# Altium footprint library PcbLib1.PcbLib: 10 footprints
Each footprint in its own frame and in the unit in brackets; x right, y up, seen from the top. Pads: shape width x height; smd on the part's side, far side on the other; paste and mask are expansions set on the pad; w line width, h text height; cw(c..) or ccw(c..) is an arc to the next point about the centre after c.
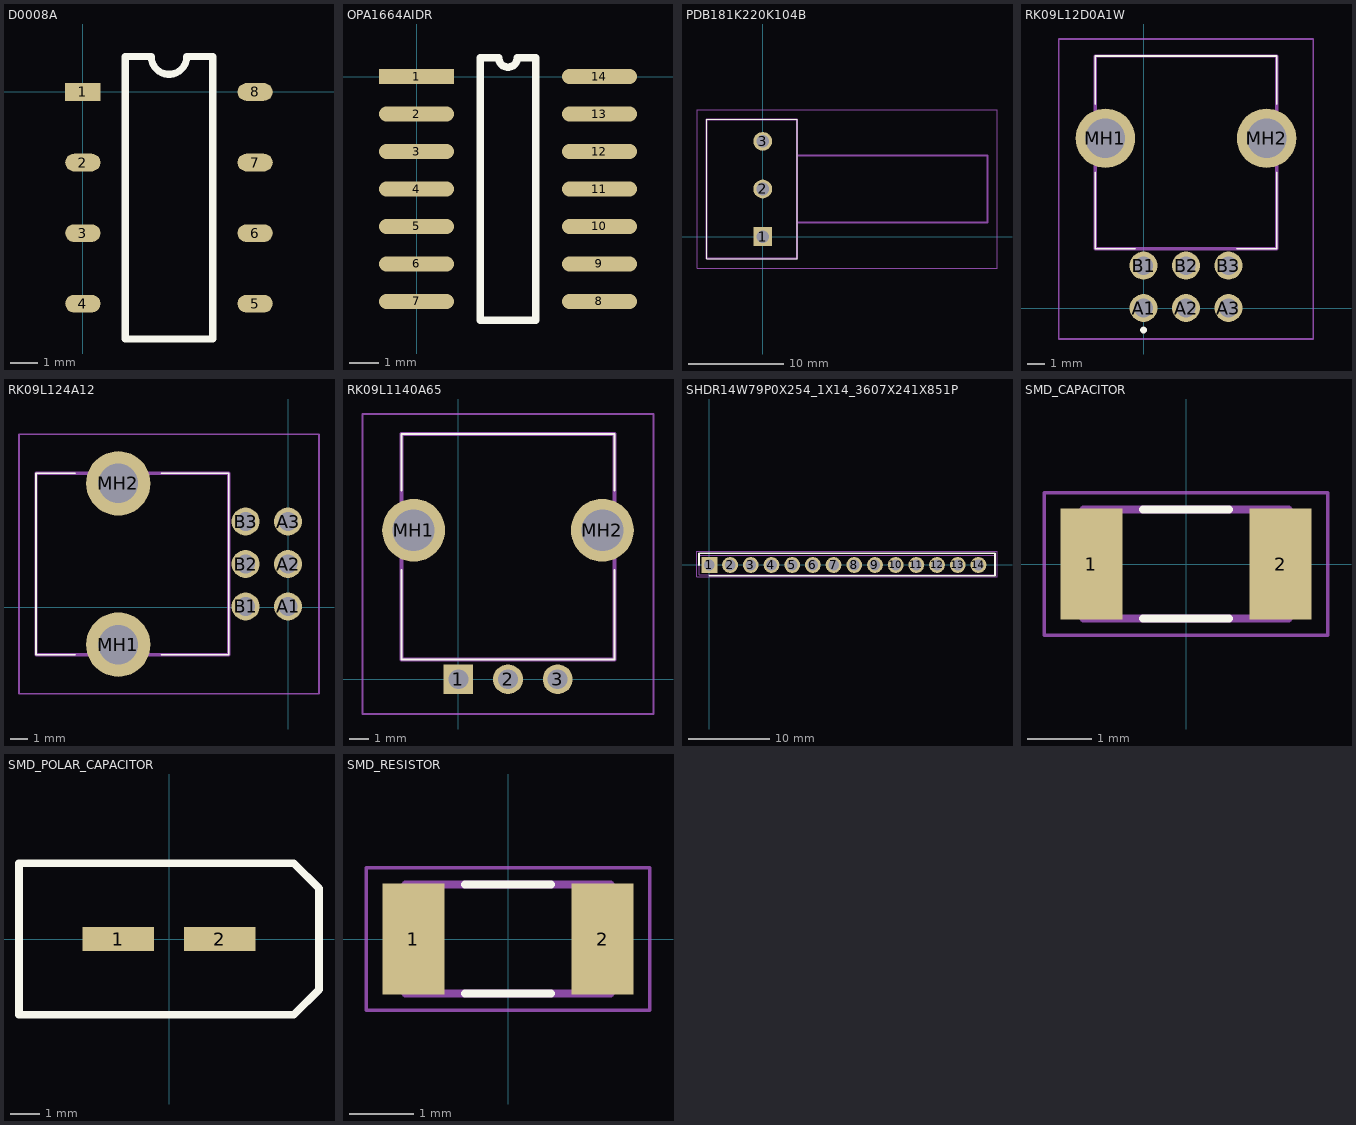
[diagram p0: the footprints below, top view; thin cyan lines are the x and y axes]

## D0008A [mil]
pads (8):
  rect 50x25 smd: 1(0,0)
  oval 50x25 smd: 2(0,-100) 3(0,-200) 4(0,-300) 5(244,-300) 6(244,-200) 7(244,-100) 8(244,0)
Top Overlay:
  lines w10: 60,-350 184,-350 184,50 147,50 cw(c122,50) 97,50 60,50 60,-350

## OPA1664AIDR [mil]
pads (14):
  rect 100x20 smd: 1(0,0)
  oval 100x20 smd: 2(0,-50) 3(0,-100) 4(0,-150) 5(0,-200) 6(0,-250) 7(0,-300) 8(244,-300) 9(244,-250) 10(244,-200) 11(244,-150) 12(244,-100) 13(244,-50) 14(244,0)
Top Overlay:
  lines w10: 85,-325 159,-325 159,25 134.5,25 cw(c122,25) 109.5,25 85,25 85,-325

## PDB181K220K104B [mm]
pads (3):
  rect 1.98x1.98 hole 1.32: 1(0,0)
  round 1.98 hole 1.32: 2(0,5) 3(0,10)
Top Overlay:
  lines w0.1: -5.9,-2.3 -1.4,-2.3 3.6,-2.3 3.6,12.3 -1.4,12.3 -5.9,12.3 -5.9,-2.3
Mechanical 13:
  lines w0.2: 3.6,1.5 23.6,1.5 23.6,8.5 3.6,8.5 ; -5.9,-2.3 -5.9,12.3 3.6,12.3 3.6,-2.3 -5.9,-2.3
Mechanical 15:
  lines w0.1: -6.9,-3.3 -6.9,13.3 24.6,13.3 24.6,-3.3 -6.9,-3.3

## RK09L12D0A1W [mm]
pads (8):
  round 1.65 hole 1.1: A1(0,0) A2(2.5,0) A3(5,0) B1(0,2.5) B2(2.5,2.5) B3(5,2.5)
  round 3.499 hole 2.332: MH1(-2.25,10) MH2(7.25,10)
Top Overlay:
  lines w0.1: -2.85,8 -2.85,3.5 -0.5,3.5 ; -2.85,12 -2.85,14.85 7.85,14.85 7.85,12 ; 5.5,3.5 7.85,3.5 7.85,8
  lines w0.2: -0.1,-1.3 ccw(c0,-1.3) 0.1,-1.3 ccw(c0,-1.3) -0.1,-1.3
Mechanical 13:
  lines w0.2: -2.85,3.5 7.85,3.5 7.85,14.85 -2.85,14.85 -2.85,3.5
Mechanical 15:
  lines w0.1: -4.999,-1.825 9.999,-1.825 9.999,15.85 -4.999,15.85 -4.999,-1.825
3D body "RK09L12D0A1W.stp": height 25.1, standoff -5, extent -3.308,-0.449 8.316,14.85

## RK09L124A12 [mm]
pads (8):
  round 1.65 hole 1.1: A1(0,0.04) A2(0,2.54) A3(0,5.04) B1(-2.5,0.04) B2(-2.5,2.54) B3(-2.5,5.04)
  round 3.795 hole 2.33: MH1(-10,-2.21) MH2(-10,7.29)
Top Overlay:
  lines w0.1: -12.54,-2.81 -14.85,-2.81 -14.85,7.89 -12.54,7.89 ; -7.46,-2.81 -3.5,-2.81 -3.5,7.89 -7.46,7.89
Mechanical 13:
  lines w0.2: -14.85,-2.81 -14.85,7.89 -3.5,7.89 -3.5,-2.81 -14.85,-2.81
Mechanical 15:
  lines w0.1: -15.85,-5.107 -15.85,10.188 1.825,10.188 1.825,-5.107 -15.85,-5.107
3D body "RK09L1240A12.stp": height 30.1, standoff -5, extent -14.85,-3.273 0.45,8.353

## RK09L1140A65 [mm]
pads (5):
  rect 1.5x1.5 hole 1: 1(0,0)
  round 1.5 hole 1: 2(2.5,0) 3(5,0)
  round 3.164 hole 2.11: MH1(-2.25,7.5) MH2(7.25,7.5)
Top Overlay:
  lines w0.1: -2.85,5.5 -2.85,1 7.85,1 7.85,5.5 ; -2.85,9.5 -2.85,12.35 7.85,12.35 7.85,9.5
Mechanical 13:
  lines w0.2: -2.85,1 7.85,1 7.85,12.35 -2.85,12.35 -2.85,1
Mechanical 15:
  lines w0.1: -4.832,-1.75 9.832,-1.75 9.832,13.35 -4.832,13.35 -4.832,-1.75
3D body "RK09L1140A65.stp": height 35.1, standoff -5, extent -3.197,-0.399 8.205,12.35

## SHDR14W79P0X254_1X14_3607X241X851P [mm]
pads (14):
  rect 1.95x1.95 hole 1.3: 1(0,0)
  round 1.95 hole 1.3: 2(2.54,0) 3(5.08,0) 4(7.62,0) 5(10.16,0) 6(12.7,0) 7(15.24,0) 8(17.78,0) 9(20.32,0) 10(22.86,0) 11(25.4,0) 12(27.94,0) 13(30.48,0) 14(33.02,0)
Top Overlay:
  lines w0.2: -1.27,0 -1.27,1.445 35.05,1.445 35.05,-1.325 0,-1.325
Mechanical 13:
  lines w0.1: -1.27,-1.205 -1.27,1.205 35.05,1.205 35.05,-1.205 -1.27,-1.205
Mechanical 15:
  lines w0.05: -1.52,-1.455 -1.52,1.695 35.3,1.695 35.3,-1.455 -1.52,-1.455

## SMD_CAPACITOR [mm]
pads (2):
  rect 0.97x1.73 smd: 1(-1.48,0) 2(1.48,0)
Top Overlay:
  lines w0.127: -0.67,-0.85 0.67,-0.85 ; -0.67,0.85 0.67,0.85
Mechanical 13:
  lines w0.127: -1.6,-0.85 -1.6,0.85 1.6,0.85 1.6,-0.85 -1.6,-0.85
Mechanical 15:
  lines w0.05: -2.215,-1.115 -2.215,1.115 2.215,1.115 2.215,-1.115 -2.215,-1.115

## SMD_POLAR_CAPACITOR [mil]
pads (2):
  rect 94x32 smd: 1(-67,0) 2(67,0)
Top Overlay:
  lines w10: -198,-100 164.67,-100 198,-66.67 198,66.67 164.67,100 -198,100 -198,0 -198,-100

## SMD_RESISTOR [mm]
pads (2):
  rect 0.97x1.73 smd: 1(-1.48,0) 2(1.48,0)
Top Overlay:
  lines w0.127: -0.67,-0.85 0.67,-0.85 ; -0.67,0.85 0.67,0.85
Mechanical 13:
  lines w0.127: -1.6,-0.85 -1.6,0.85 1.6,0.85 1.6,-0.85 -1.6,-0.85
Mechanical 15:
  lines w0.05: -2.215,-1.115 -2.215,1.115 2.215,1.115 2.215,-1.115 -2.215,-1.115